# Altium schematic symbol library ADI-AD9959-CP-56-1.SchLib: 1 symbol
Pins are listed as number, name and electrical type; pins without a type are passive.

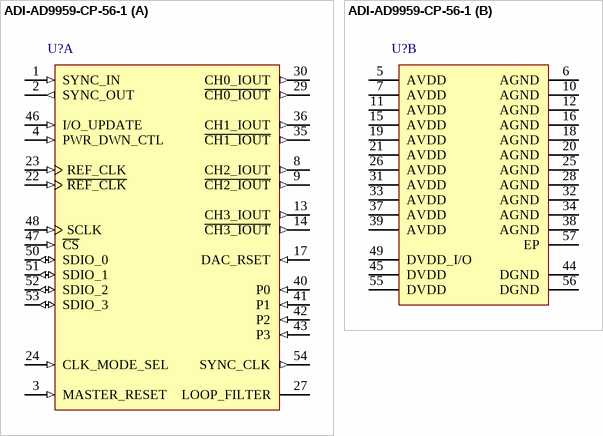
[diagram p0: symbol ADI-AD9959-CP-56-1]

## ADI-AD9959-CP-56-1
designator U?
part A pins: 1 SYNC_IN (in) "Used to Synchronize Multiple AD9959 Devices. Connects to the SYNC_OUT pin of the master AD9959 device.", 2 SYNC_OUT (out) "Used to Synchronize Multiple AD9959 Devices. Connects to the SYNC_IN pin of the slave AD9959 devices.", 3 MASTER_RESET (in) "Active High Reset Pin. Asserting the MASTER_RESET pin forces the AD9959 internal registers to their default state, as described in the Register Maps and Bit Descriptions section.", 4 PWR_DWN_CTL (in) "External Power-Down Control.", 8 CH2_IOUT (out) "True DAC Output. Terminates into AVDD.", 9 ~{CH2_IOUT} (out) "Complementary DAC Output. Terminates into AVDD.", 13 CH3_IOUT (out) "True DAC Output. Terminates into AVDD.", 14 ~{CH3_IOUT} (out) "Complementary DAC Output. Terminates into AVDD.", 17 DAC_RSET (in) "Establishes the Reference Current for All DACs. A 1.91 k ohm resistor (nominal) is connected from Pin 17 to AGND.", 22 ~{REF_CLK} (in) "Complementary Reference Clock/Oscillator Input. When the REF_CLK is operated in single-ended mode, this pin should be decoupled to AVDD or AGND with a  0.1 uF capacitor", 23 REF_CLK (in) "Reference Clock/Oscillator Input. When the REF_CLK is operated in single-ended mode, this is the input. See the Modes of Operation section for the reference clock configuration.", 24 CLK_MODE_SEL (in) "Control Pin for the Oscillator Section. Caution: Do not drive this pin beyond 1.8 V. When high (1.8 V), the oscillator section is enabled to accept a crystal as the REF_CLK source. [see datasheet]", 27 LOOP_FILTER "Connects to the external zero compensation network of the PLL loop filter. Typically, the network consists of a 0  ohm resistor in series with a 680 pF capacitor tied to AVDD.", 29 ~{CH0_IOUT} (out) "Complementary DAC Output. Terminates into AVDD.", 30 CH0_IOUT (out) "True DAC Output. Terminates into AVDD.", 35 ~{CH1_IOUT} (out) "Complementary DAC Output. Terminates into AVDD.", 36 CH1_IOUT (out) "True DAC Output. Terminates into AVDD.", 40 P0 (in) "Data pins used for modulation (FSK, PSK, ASK), to start/stop the sweep accumulators or used to ramp up/ramp down the output amplitude. [see datasheet]", 41 P1 (in) "Data pins used for modulation (FSK, PSK, ASK), to start/stop the sweep accumulators or used to ramp up/ramp down the output amplitude. [see datasheet]", 42 P2 (in) "Data pins used for modulation (FSK, PSK, ASK), to start/stop the sweep accumulators or used to ramp up/ramp down the output amplitude. [see datasheet]", 43 P3 (in) "Data pins used for modulation (FSK, PSK, ASK), to start/stop the sweep accumulators or used to ramp up/ramp down the output amplitude. [see datasheet]", 46 I/O_UPDATE (in) "A rising edge transfers data from the serial I/O port buffer to active registers. I/O_UPDATE is synchronous to the SYNC_CLK (Pin 54). [see datasheet]", 47 ~{CS} (in) "Active Low Chip Select. Allows multiple devices to share a common I/O bus (SPI).", 48 SCLK (in) "Serial Data Clock for I/O Operations. Data bits are written on the rising edge of SCLK and read on the falling edge of SCLK.", 50 SDIO_0 (io) "Data Pin SDIO_0 is dedicated to the serial port I/O only", 51 SDIO_1 (io) "Data Pin SDIO_1 and Data Pin SDIO_2 can be used for the serial I/O port or used to initiate a ramp-up/ramp-down (RU/RD) of the DAC output amplitude.", 52 SDIO_2 (io) "Data Pin SDIO_1 and Data Pin SDIO_2 can be used for the serial I/O port or used to initiate a ramp-up/ramp-down (RU/RD) of the DAC output amplitude.", 53 SDIO_3 (io) "Data Pin SDIO_3 can be used for the serial I/O port or to initiate a ramp-up/ramp-down (RU/RD) of the DAC output amplitude. In single-bit or 2-bit modes, SDIO_3 is used for SYNC_I/O. [see datasheet]", 54 SYNC_CLK (out) "The SYNC_CLK runs at one-fourth the system clock rate; it can be disabled. I/O_UPDATE or data (Pin 40 to Pin 43) is synchronous to the SYNC_CLK. [see datasheet]"
part B pins: 5 AVDD (power) "Analog Power Supply Pins (1.8 V).", 6 AGND (power) "Analog Ground Pins", 7 AVDD (power) "Analog Power Supply Pins (1.8 V).", 10 AGND (power) "Analog Ground Pins", 11 AVDD (power) "Analog Power Supply Pins (1.8 V).", 12 AGND (power) "Analog Ground Pins", 15 AVDD (power) "Analog Power Supply Pins (1.8 V).", 16 AGND (power) "Analog Ground Pins", 18 AGND (power) "Analog Ground Pins", 19 AVDD (power) "Analog Power Supply Pins (1.8 V).", 20 AGND (power) "Analog Ground Pins", 21 AVDD (power) "Analog Power Supply Pins (1.8 V).", 25 AGND (power) "Analog Ground Pins", 26 AVDD (power) "Analog Power Supply Pins (1.8 V).", 28 AGND (power) "Analog Ground Pins", 31 AVDD (power) "Analog Power Supply Pins (1.8 V).", 32 AGND (power) "Analog Ground Pins", 33 AVDD (power) "Analog Power Supply Pins (1.8 V).", 34 AGND (power) "Analog Ground Pins", 37 AVDD (power) "Analog Power Supply Pins (1.8 V).", 38 AGND (power) "Analog Ground Pins", 39 AVDD (power) "Analog Power Supply Pins (1.8 V).", 44 DGND (power) "Digital Power Ground Pins.", 45 DVDD (power) "Digital Power Supply Pins (1.8 V).", 49 DVDD_I/O (power) "3.3 V Digital Power Supply for SPI Port and Digital I/O.", 55 DVDD (power) "Digital Power Supply Pins (1.8 V).", 56 DGND (power) "Digital Power Ground Pins.", 57 EP (power) "Exposed pad"